# Altium footprint library CoreBoard.PcbLib: 22 footprints (part 1 of 2)
Each footprint in its own frame and in the unit in brackets; x right, y up, seen from the top. Pads: shape width x height; smd on the part's side, far side on the other; paste and mask are expansions set on the pad; w line width, h text height; cw(c..) or ccw(c..) is an arc to the next point about the centre after c.
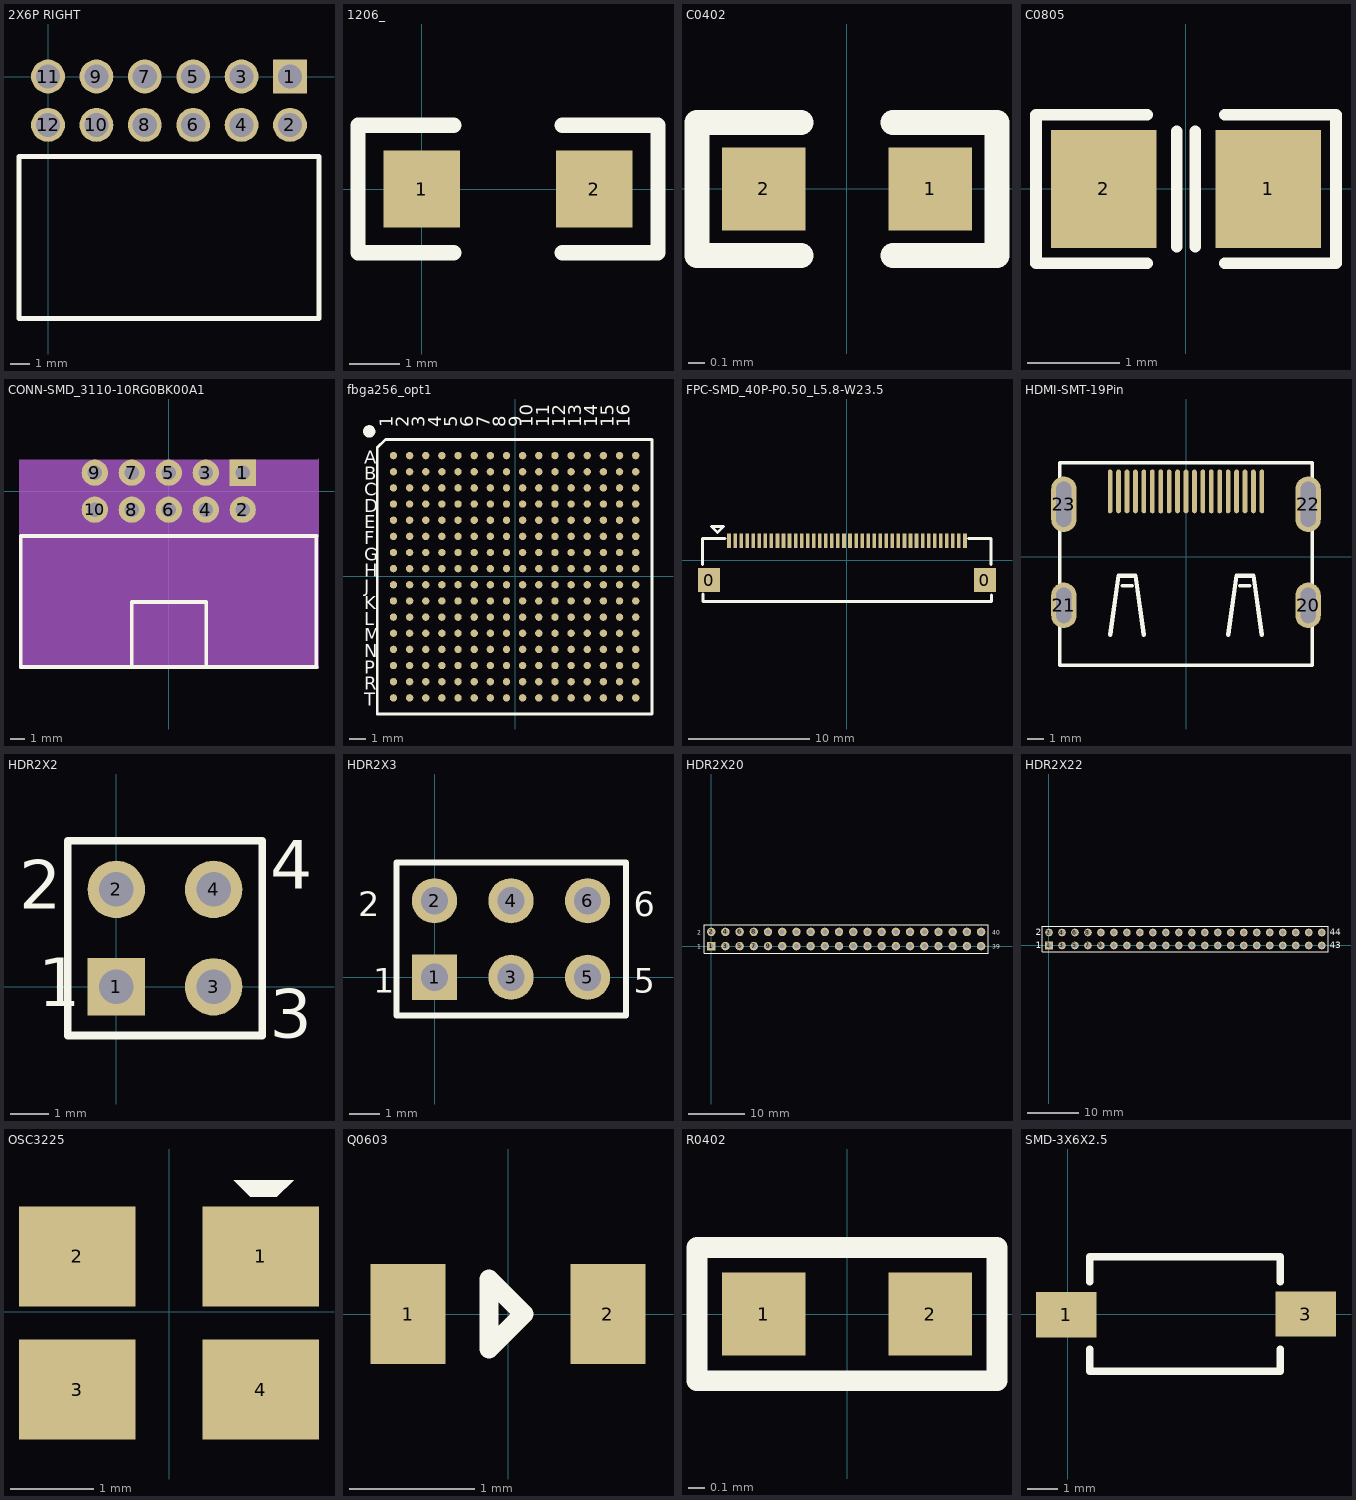
[diagram p0: the footprints below, top view; thin cyan lines are the x and y axes]

## 2X6P RIGHT [mil] "12P双排右弯排母"
pads (12):
  rect 70x70 hole 50: 1(500,0)
  round 70 hole 50: 2(500,-100) 3(400,0) 4(400,-100) 5(300,0) 6(300,-100) 7(200,0) 8(200,-100) 9(100,0) 10(100,-100) 11(0,0) 12(0,-100)
Top Overlay:
  lines w10: -60,-500 -60,-165 -50,-165 560,-165 560,-500 -60,-500
3D body: height 198.43, standoff -124.41, extent -55,-496.06 554.84,0

## 1206_ [mil]
height 307.09
pads (2):
  rect 60x60 smd: 1(0,0) 2(135,0)
Top Overlay:
  lines w12: 25,-50 -50,-50 -50,50 25,50 ; 110,-50 185,-50 185,50 110,50

## C0402 [mil] "C0402"
pads (2):
  rect 20x20 smd: 1(20,0) 2(-20,0)
Top Overlay:
  lines w6: -11,-16 -36,-16 -36,16 -11,16 ; 11,-16 36,-16 36,16 11,16

## C0805 [mil] "C0805"
pads (2):
  rect 44.9x50 smd: 1(35,0) 2(-35,0)
Top Overlay:
  lines w4.92: -16.54,-31.5 -63.78,-31.5 -63.78,31.5 -16.54,31.5 ; -3.94,-24.61 -3.94,24.61 ; 3.94,-24.61 3.94,24.61 ; 16.54,-31.5 63.78,-31.5 63.78,31.5 16.54,31.5

## CONN-SMD_3110-10RG0BK00A1 [mm]
pads (10):
  rect 1.8x1.8 hole 1.02: 1(5.08,1.27)
  round 1.8 hole 1.02: 2(5.08,-1.27) 3(2.54,1.27) 4(2.54,-1.27) 5(0,1.27) 6(0,-1.27) 7(-2.54,1.27) 8(-2.54,-1.27) 9(-5.08,1.27) 10(-5.08,-1.27)
Top Overlay:
  lines w0.254: -2.54,-12.065 -2.54,-7.615 2.564,-7.615 2.564,-12.065 ; 10.136,-12.07 10.136,-3.07 ; 10.16,-12.07 -10.16,-12.07 -10.16,-3.07 10.16,-3.07
Mechanical 4:
  region: -10.287,2.17 10.287,2.17 10.287,-12.197 -10.287,-12.197
Mechanical 5:
  circle w0.41: c-5.08,-1.27 r0.205
  circle w0.41: c-5.08,1.27 r0.205
  circle w0.41: c-2.54,-1.27 r0.205
  circle w0.41: c-2.54,1.27 r0.205
  circle w0.41: c0,-1.27 r0.205
  circle w0.41: c0,1.27 r0.205
  circle w0.41: c2.54,-1.27 r0.205
  circle w0.41: c2.54,1.27 r0.205
  circle w0.41: c5.08,-1.27 r0.205
  circle w0.41: c5.08,1.27 r0.205
Mechanical 6:
  circle w0.06: c10.287,2.17 r0.03

## fbga256_opt1 [mil] "FBGA256_OPT1"
pads (256):
  round 18 smd: A1(-297.36,294.69) A2(-257.99,294.69) A3(-218.62,294.69) A4(-179.25,294.69) A5(-139.88,294.69) A6(-100.51,294.69) A7(-61.14,294.69) A8(-21.77,294.69) A9(17.61,294.69) A10(56.98,294.69) A11(96.35,294.69) A12(135.72,294.69) A13(175.09,294.69) A14(214.46,294.69) A15(253.83,294.69) A16(293.2,294.69) B1(-297.36,255.32) B2(-257.99,255.32) B3(-218.62,255.32) B4(-179.25,255.32) B5(-139.88,255.32) B6(-100.51,255.32) B7(-61.14,255.32) B8(-21.77,255.32) B9(17.61,255.32) B10(56.98,255.32) B11(96.35,255.32) B12(135.72,255.32) B13(175.09,255.32) B14(214.46,255.32) B15(253.83,255.32) B16(293.2,255.32) C1(-297.36,215.95) C2(-257.99,215.95) C3(-218.62,215.95) C4(-179.25,215.95) C5(-139.88,215.95) C6(-100.51,215.95) C7(-61.14,215.95) C8(-21.77,215.95) C9(17.61,215.95) C10(56.98,215.95) C11(96.35,215.95) C12(135.72,215.95) C13(175.09,215.95) C14(214.46,215.95) C15(253.83,215.95) C16(293.2,215.95) D1(-297.36,176.58) D2(-257.99,176.58) D3(-218.62,176.58) D4(-179.25,176.58) D5(-139.88,176.58) D6(-100.51,176.58) D7(-61.14,176.58) D8(-21.77,176.58) D9(17.61,176.58) D10(56.98,176.58) D11(96.35,176.58) D12(135.72,176.58) D13(175.09,176.58) D14(214.46,176.58) D15(253.83,176.58) D16(293.2,176.58) E1(-297.36,137.21) E2(-257.99,137.21) E3(-218.62,137.21) E4(-179.25,137.21) E5(-139.88,137.21) E6(-100.51,137.21) E7(-61.14,137.21) E8(-21.77,137.21) E9(17.61,137.21) E10(56.98,137.21) E11(96.35,137.21) E12(135.72,137.21) E13(175.09,137.21) E14(214.46,137.21) E15(253.83,137.21) E16(293.2,137.21) F1(-297.36,97.84) F2(-257.99,97.84) F3(-218.62,97.84) F4(-179.25,97.84) F5(-139.88,97.84) F6(-100.51,97.84) F7(-61.14,97.84) F8(-21.77,97.84) F9(17.61,97.84) F10(56.98,97.84) F11(96.35,97.84) F12(135.72,97.84) F13(175.09,97.84) F14(214.46,97.84) F15(253.83,97.84) F16(293.2,97.84) G1(-297.36,58.47) G2(-257.99,58.47) G3(-218.62,58.47) G4(-179.25,58.47) G5(-139.88,58.47) G6(-100.51,58.47) G7(-61.14,58.47) G8(-21.77,58.47) G9(17.61,58.47) G10(56.98,58.47) G11(96.35,58.47) G12(135.72,58.47) G13(175.09,58.47) G14(214.46,58.47) G15(253.83,58.47) G16(293.2,58.47) H1(-297.36,19.1) H2(-257.99,19.1) H3(-218.62,19.1) H4(-179.25,19.1) H5(-139.88,19.1) H6(-100.51,19.1) H7(-61.14,19.1) H8(-21.77,19.1) H9(17.61,19.1) H10(56.98,19.1) H11(96.35,19.1) H12(135.72,19.1) H13(175.09,19.1) H14(214.46,19.1) H15(253.83,19.1) H16(293.2,19.1) J1(-297.36,-20.28) J2(-257.99,-20.28) J3(-218.62,-20.28) J4(-179.25,-20.28) J5(-139.88,-20.28) J6(-100.51,-20.28) J7(-61.14,-20.28) J8(-21.77,-20.28) J9(17.61,-20.28) J10(56.98,-20.28) J11(96.35,-20.28) J12(135.72,-20.28) J13(175.09,-20.28) J14(214.46,-20.28) J15(253.83,-20.28) J16(293.2,-20.28) K1(-297.36,-59.65) K2(-257.99,-59.65) K3(-218.62,-59.65) K4(-179.25,-59.65) K5(-139.88,-59.65) K6(-100.51,-59.65) K7(-61.14,-59.65) K8(-21.77,-59.65) K9(17.61,-59.65) K10(56.98,-59.65) K11(96.35,-59.65) K12(135.72,-59.65) K13(175.09,-59.65) K14(214.46,-59.65) K15(253.83,-59.65) K16(293.2,-59.65) L1(-297.36,-99.02) L2(-257.99,-99.02) L3(-218.62,-99.02) L4(-179.25,-99.02) L5(-139.88,-99.02) L6(-100.51,-99.02) L7(-61.14,-99.02) L8(-21.77,-99.02) L9(17.61,-99.02) L10(56.98,-99.02) L11(96.35,-99.02) L12(135.72,-99.02) L13(175.09,-99.02) L14(214.46,-99.02) L15(253.83,-99.02) L16(293.2,-99.02) M1(-297.36,-138.39) M2(-257.99,-138.39) M3(-218.62,-138.39) M4(-179.25,-138.39) M5(-139.88,-138.39) M6(-100.51,-138.39) M7(-61.14,-138.39) M8(-21.77,-138.39) M9(17.61,-138.39) M10(56.98,-138.39) M11(96.35,-138.39) M12(135.72,-138.39) M13(175.09,-138.39) M14(214.46,-138.39) M15(253.83,-138.39) M16(293.2,-138.39) N1(-297.36,-177.76) N2(-257.99,-177.76) N3(-218.62,-177.76) N4(-179.25,-177.76) N5(-139.88,-177.76) N6(-100.51,-177.76) N7(-61.14,-177.76) N8(-21.77,-177.76) N9(17.61,-177.76) N10(56.98,-177.76) N11(96.35,-177.76) N12(135.72,-177.76) N13(175.09,-177.76) N14(214.46,-177.76) N15(253.83,-177.76) N16(293.2,-177.76) P1(-297.36,-217.13) P2(-257.99,-217.13) P3(-218.62,-217.13) P4(-179.25,-217.13) P5(-139.88,-217.13) P6(-100.51,-217.13) P7(-61.14,-217.13) P8(-21.77,-217.13) P9(17.61,-217.13) P10(56.98,-217.13) P11(96.35,-217.13) P12(135.72,-217.13) P13(175.09,-217.13) P14(214.46,-217.13) P15(253.83,-217.13) P16(293.2,-217.13) R1(-297.36,-256.5) R2(-257.99,-256.5) R3(-218.62,-256.5) R4(-179.25,-256.5) R5(-139.88,-256.5) R6(-100.51,-256.5) R7(-61.14,-256.5) R8(-21.77,-256.5) R9(17.61,-256.5) R10(56.98,-256.5) R11(96.35,-256.5) R12(135.72,-256.5) R13(175.09,-256.5) R14(214.46,-256.5) R15(253.83,-256.5) R16(293.2,-256.5) T1(-297.36,-295.87) T2(-257.99,-295.87) T3(-218.62,-295.87) T4(-179.25,-295.87) T5(-139.88,-295.87) T6(-100.51,-295.87) T7(-61.14,-295.87) T8(-21.77,-295.87) T9(17.61,-295.87) T10(56.98,-295.87) T11(96.35,-295.87) T12(135.72,-295.87) T13(175.09,-295.87) T14(214.46,-295.87) T15(253.83,-295.87) T16(293.2,-295.87)
Top Overlay:
  circle w15: c-356.41,353.74 r7.5
  lines w7: -336.73,-335.24 -336.73,314.37 -317.04,334.06 332.57,334.06 332.57,-335.24 -336.73,-335.24
  text "T" at -368.81,-315.55 h32.01
  text "R" at -368.81,-276.18 h32.01
  text "P" at -368.81,-236.81 h32.01
  text "N" at -368.81,-197.44 h32.01
  text "M" at -368.81,-158.07 h32.01
  text "L" at -368.81,-118.7 h32.01
  text "K" at -368.81,-79.33 h32.01
  text "J" at -368.81,-39.96 h32.01
  text "H" at -368.81,-0.59 h32.01
  text "G" at -368.81,38.78 h32.01
  text "F" at -368.81,78.15 h32.01
  text "E" at -368.81,117.52 h32.01
  text "D" at -368.81,156.89 h32.01
  text "C" at -368.81,196.26 h32.01
  text "B" at -368.81,235.63 h32.01
  text "A" at -368.81,275 h32.01
  text "5" at -141.94,364.07 h32.01
  text "4" at -181.31,364.07 h32.01
  text "3" at -220.68,364.07 h32.01
  text "2" at -260.05,364.07 h32.01
  text "1" at -299.42,364.07 h32.01
  text "10" at 42.51,364.07 h32.01
  text "9" at 15.54,364.07 h32.01
  text "8" at -23.83,364.07 h32.01
  text "7" at -63.2,364.07 h32.01
  text "6" at -102.57,364.07 h32.01
  text "15" at 239.36,364.07 h32.01
  text "14" at 199.99,364.07 h32.01
  text "13" at 160.62,364.07 h32.01
  text "12" at 121.25,364.07 h32.01
  text "11" at 81.88,364.07 h32.01
  text "16" at 278.73,364.07 h32.01

## FPC-SMD_40P-P0.50_L5.8-W23.5 [mm]
pads (42):
  rect 1.8x2 smd: 0(-11.4,-1.624) 0(11.4,-1.624)
  rect 0.3x1.2 smd: 1(-9.75,1.624) 2(-9.25,1.624) 3(-8.75,1.624) 4(-8.25,1.624) 5(-7.75,1.624) 6(-7.25,1.624) 7(-6.75,1.624) 8(-6.25,1.624) 9(-5.75,1.624) 10(-5.25,1.624) 11(-4.75,1.624) 12(-4.25,1.624) 13(-3.75,1.624) 14(-3.25,1.624) 15(-2.75,1.624) 16(-2.25,1.624) 17(-1.75,1.624) 18(-1.25,1.624) 19(-0.75,1.624) 20(-0.25,1.624) 21(0.25,1.624) 22(0.75,1.624) 23(1.25,1.624) 24(1.75,1.624) 25(2.25,1.624) 26(2.75,1.624) 27(3.25,1.624) 28(3.75,1.624) 29(4.25,1.624) 30(4.75,1.624) 31(5.25,1.624) 32(5.75,1.624) 33(6.25,1.624) 34(6.75,1.624) 35(7.25,1.624) 36(7.75,1.624) 37(8.25,1.624) 38(8.75,1.624) 39(9.25,1.624) 40(9.75,1.624)
Top Overlay:
  lines w0.254: -11.943,-0.35 -11.943,1.8 -10.1,1.8 ; -11.9,-2.8 -11.9,-3.4 11.95,-3.4 11.95,-2.856 ; 10.05,1.8 11.9,1.8 11.9,-0.35 ; -11.2,2.8 -10.7,2.3 -10.202,2.8 -10.7,2.8 -11.2,2.8

## HDMI-SMT-19Pin [mm]
height 2.4
pads (23):
  oval 0.28x2.596 smd: 1(4.501,3.887) 2(4,3.887) 3(3.5,3.887) 4(3,3.887) 5(2.499,3.887) 6(1.999,3.887) 7(1.501,3.887) 8(1.001,3.887) 9(0.5,3.887) 10(0,3.887) 11(-0.5,3.887) 12(-1.001,3.887) 13(-1.499,3.887) 14(-1.999,3.887) 15(-2.499,3.887) 16(-3,3.887) 17(-3.5,3.887) 18(-4,3.887) 19(-4.501,3.887)
  oval 1.5x2.699 hole 0.9 slot 2.1 at 90 deg: 20(7.25,-2.872) 21(-7.25,-2.872)
  oval 1.5x3.299 hole 0.9 slot 2.7 at 90 deg: 22(7.25,3.128) 23(-7.25,3.128)
Top Overlay:
  lines w0.2: -7.5,-6.422 7.5,-6.422 ; -7.5,-6.412 -7.5,5.587 7.5,5.587 7.5,-6.412 ; -3.8,-1.712 -3.2,-1.712 ; 3.2,-1.712 3.8,-1.712
  lines w0.254: -4.5,-4.613 -4,-1.113 -3,-1.113 -2.5,-4.613 ; 2.5,-4.613 3,-1.113 4,-1.113 4.5,-4.613
3D body: height 6.23, standoff -2.15, extent -7.5,-7.493 7.5,4.657

## HDR2X2 [mm] "Connector; Header; 2x2 Position"
pads (4):
  rect 1.5x1.5 hole 0.9: 1(0,0)
  round 1.5 hole 0.9: 2(0,2.54) 3(2.54,0) 4(2.54,2.54)
Top Overlay:
  lines w0.2: -1.27,-1.27 3.81,-1.27 3.81,3.81 -1.27,3.81 -1.27,-1.27
  text "3" at 4.011,-1.333 h1.27
  text "4" at 4.021,2.558 h1.27
  text "2" at -2.54,2.032 h1.27
  text "1" at -2.032,-0.508 h1.27

## HDR2X3 [mm] "Connector; Header; 3x2 Position"
pads (6):
  rect 1.5x1.5 hole 0.9: 1(0,0)
  round 1.5 hole 0.9: 2(0,2.54) 3(2.54,0) 4(2.54,2.54) 5(5.08,0) 6(5.08,2.54)
Top Overlay:
  lines w0.2: 1.482,-1.27 6.35,-1.27 ; 6.35,-1.27 -1.27,-1.27 -1.27,3.81 6.35,3.81 6.35,-1.27
  text "1" at -2.032,-0.508 h0.81
  text "2" at -2.54,2.032 h0.81
  text "5" at 6.604,-0.508 h0.81
  text "6" at 6.604,2.032 h0.81

## HDR2X20 [mm] "Connector; Header; 20x2 Position"
pads (40):
  rect 1.5x1.5 hole 0.9: 1(0,0)
  round 1.5 hole 0.9: 2(0,2.54) 3(2.54,0) 4(2.54,2.54) 5(5.08,0) 6(5.08,2.54) 7(7.62,0) 8(7.62,2.54) 9(10.16,0) 10(10.16,2.54) 11(12.7,0) 12(12.7,2.54) 13(15.24,0) 14(15.24,2.54) 15(17.78,0) 16(17.78,2.54) 17(20.32,0) 18(20.32,2.54) 19(22.86,0) 20(22.86,2.54) 21(25.4,0) 22(25.4,2.54) 23(27.94,0) 24(27.94,2.54) 25(30.48,0) 26(30.48,2.54) 27(33.02,0) 28(33.02,2.54) 29(35.56,0) 30(35.56,2.54) 31(38.1,0) 32(38.1,2.54) 33(40.64,0) 34(40.64,2.54) 35(43.18,0) 36(43.18,2.54) 37(45.72,0) 38(45.72,2.54) 39(48.26,0) 40(48.26,2.54)
Top Overlay:
  lines w0.2: -1.27,-1.27 -1.27,3.81 49.53,3.81 49.53,-1.27 -1.27,-1.27
  text "39" at 50.292,-0.508 h0.81
  text "40" at 50.292,2.032 h0.81
  text "2" at -2.54,2.032 h0.81
  text "1" at -2.54,-0.508 h0.81

## HDR2X22 [mm] "Connector; Header; 22x2 Position"
pads (44):
  rect 1.5x1.5 hole 0.9: 1(0,0)
  round 1.5 hole 0.9: 2(0,2.54) 3(2.54,0) 4(2.54,2.54) 5(5.08,0) 6(5.08,2.54) 7(7.62,0) 8(7.62,2.54) 9(10.16,0) 10(10.16,2.54) 11(12.7,0) 12(12.7,2.54) 13(15.24,0) 14(15.24,2.54) 15(17.78,0) 16(17.78,2.54) 17(20.32,0) 18(20.32,2.54) 19(22.86,0) 20(22.86,2.54) 21(25.4,0) 22(25.4,2.54) 23(27.94,0) 24(27.94,2.54) 25(30.48,0) 26(30.48,2.54) 27(33.02,0) 28(33.02,2.54) 29(35.56,0) 30(35.56,2.54) 31(38.1,0) 32(38.1,2.54) 33(40.64,0) 34(40.64,2.54) 35(43.18,0) 36(43.18,2.54) 37(45.72,0) 38(45.72,2.54) 39(48.26,0) 40(48.26,2.54) 41(50.8,0) 42(50.8,2.54) 43(53.34,0) 44(53.34,2.54)
Top Overlay:
  lines w0.2: -1.27,-1.27 54.61,-1.27 54.61,3.81 -1.27,3.81 -1.27,-1.27
  text "2" at -2.54,2.032 h1.27
  text "1" at -2.54,-0.508 h1.27
  text "44" at 54.864,2.032 h1.27
  text "43" at 54.864,-0.508 h1.27

## OSC3225 [mil] "OSC3225"
pads (4):
  rect 55.12x47.24 smd: 1(43.31,26.28) 2(-43.31,26.28) 3(-43.31,-36.72) 4(43.31,-36.72)
Top Overlay:
  pour cut-out: 50.98,54.43 38.39,54.43 30.51,62.3 58.86,62.3

## Q0603 [mil] "Q0603"
pads (2):
  rect 23.62x31.5 smd: 1(-31.5,0) 2(31.5,0)
Top Overlay:
  lines w6: -6,-11 5,0 -6,11 -6,-11

## R0402 [mil] "R0402"
pads (2):
  rect 20x20 smd: 1(-20.05,0.05) 2(19.95,0.05)
Top Overlay:
  lines w5: -36.05,-15.95 -36.05,16.05 35.95,16.05 35.95,-15.95 -36.05,-15.95

## SMD-3X6X2.5 [mm]
height 2.4
pads (2):
  rect 2x1.5 smd: 1(-0.059,-0.02) 3(7.874,0)
Top Overlay:
  lines w0.254: 0.725,-1.168 0.725,-1.9 7.025,-1.9 7.025,-1.168 ; 0.725,1.067 0.725,1.9 7.025,1.9 7.025,1.067
3D body: height 2.59, standoff -0.03, extent -0.19,-1.778 7.81,1.722